# EAGLE library part LMZ10500 (library LMZ10500)
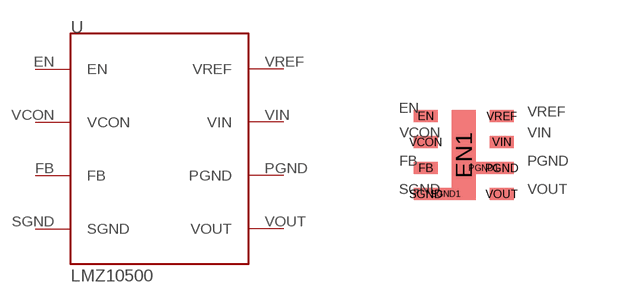
[diagram p0: symbol with the pads of LMZ10500; footprint LMZ10500]

Designator prefix -

## LMZ10500  [LMZ10500]
EN  EN
FB  FB
PGND  PGND
SGND  SGND
VCON  VCON
VIN  VIN
VOUT  VOUT
VREF  VREF

## Footprint LMZ10500 (pad centres in mm)
smd 0.6 x 0.3: EN 0,1.95; FB 0,0.65; PGND 1.9,0.65; PGND1 1.45,0.65; SGND 0,0; SGND1 0.5,0; VCON 0,1.3; VIN 1.9,1.3; VOUT 1.9,0; VREF 1.9,1.95
smd 0.6 x 2.25: EN1 0.95,0.975